# Altium footprint library Alpha_RD901F-40-15R.PcbLib: 1 footprints
Each footprint in its own frame and in the unit in brackets; x right, y up, seen from the top. Pads: shape width x height; smd on the part's side, far side on the other; paste and mask are expansions set on the pad; w line width, h text height; cw(c..) or ccw(c..) is an arc to the next point about the centre after c.
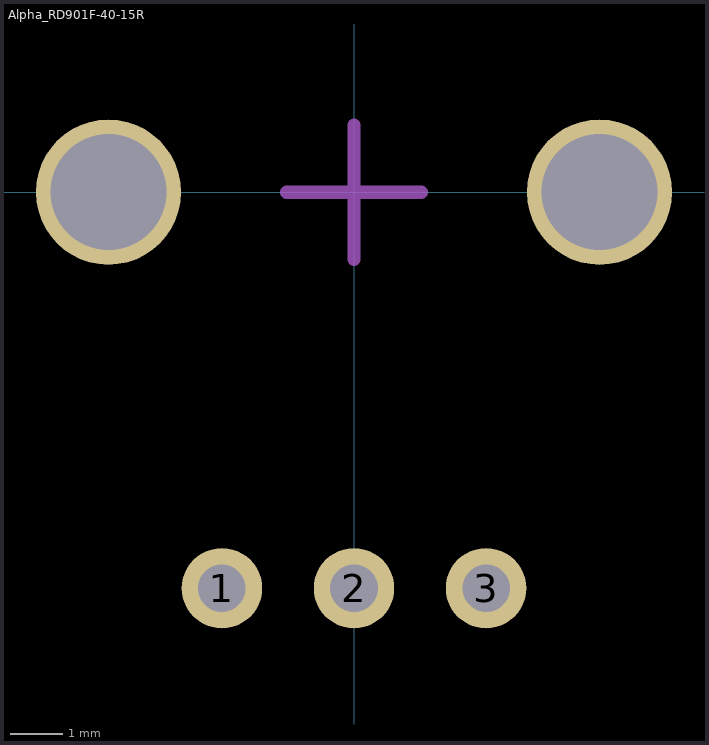
[diagram p0: the footprint, top view; thin cyan lines are the x and y axes]

## Alpha_RD901F-40-15R [mm] "Alpha RD901F-40-15R series"
pads (5):
  round 1.524 hole 0.9: 1(-2.5,-7.5) 2(0,-7.5) 3(2.5,-7.5)
  round 2.75 hole 2.2: ""(-4.65,0) ""(4.65,0)
Mechanical 15:
  lines w0.254: -1.27,0 0,0 ; 0,-1.27 0,0 ; 0,1.27 0,0 ; 1.27,0 0,0
3D body "RD901F-40-15R1.step": height 25, standoff -3.5, extent -5.854,-7.65 5.854,4.85